# EAGLE library part BFCN-5100+ (library BFCN-5100+)
5.1GHz Center Band Pass Ceramic Filter 4 GHz 50Ohm 8-SMD Module Source: Datasheet <https://www.minicircuits.com/WebStore/dashboard.html?model=BFCN-5100+>
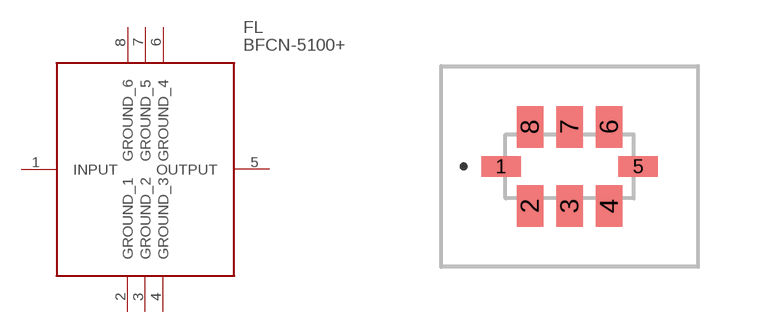
[diagram p0: symbol with the pads of BFCN5100; footprint BFCN5100]

Designator prefix FL

## BFCN-5100+ (Description: 5.1GHz Center Band Pass Ceramic Filter 4 GHz 50Ohm 8-SMD Module; Height: 1.042mm; Manufacturer_Name: Mini-Circuits; Manufacturer_Part_Number: BFCN-5100+; Mouser_Part_Number: 139-BFCN-5100; Mouser_Price-Stock: https://www.mouser.co.uk/ProductDetail/Mini-Circuits/BFCN-5100%2b?qs=xZ%2FP%252Ba9zWqYgAa562jLAEw%3D%3D)  [BFCN5100]
1  INPUT
2  GROUND_1
3  GROUND_2
4  GROUND_3
5  OUTPUT
6  GROUND_4
7  GROUND_5
8  GROUND_6

## Footprint BFCN5100 (pad centres in mm)
FV1206-6
smd 0.99 x 0.51: 1 -1.715,0; 5 1.715,0
smd 0.66 x 1.04: 2 -0.99,-0.99; 3 0,-0.99; 4 0.99,-0.99; 6 0.99,0.99; 7 0,0.99; 8 -0.99,0.99